# EAGLE library part 2X5 (library headers.edge(.1in))
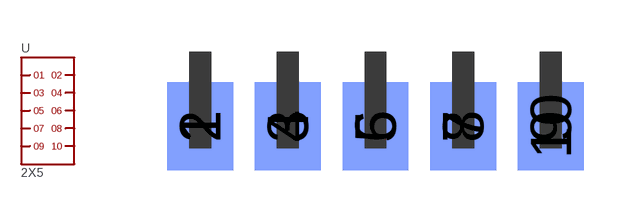
[diagram p7: symbol with the pads of 2X5; footprint 2X5]

Designator prefix -

## 2X5  [2X5]
1  1
2  2
3  3
4  4
5  5
6  6
7  7
8  8
9  9
10  10

## Footprint 2X5 (pad centres in mm)
smd 1.905 x 2.54: 1 0,-2.159; 3 2.54,-2.159; 5 5.08,-2.159; 7 7.62,-2.159; 9 10.16,-2.159
smd 1.905 x 2.54 bottom: 2 0,-2.159; 4 2.54,-2.159; 6 5.08,-2.159; 8 7.62,-2.159; 10 10.16,-2.159